# EAGLE library part AD620 (library #PaJa_31)
Pristrojovy zesilovac
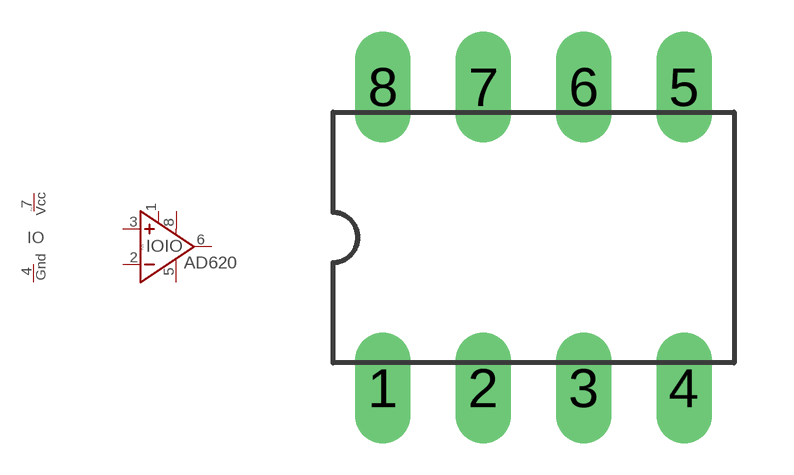
[diagram p33: symbol with the pads of DIL8; footprint DIL8]

Designator prefix IO; gates IO=AD620 N=POWER

## AD620  [DIL8]
1  IO:R1  pas
2  IO:IN-  in
3  IO:NEIN+  in
4  N:GND  pwr
5  IO:OP  pas
6  IO:VYSTUP  out
7  N:VCC  pwr
8  IO:R2  pas

## Footprint DIL8 (pad centres in mm)
drill 0.813 pad 1.4 long: 1 -3.81,-3.81; 2 -1.27,-3.81; 3 1.27,-3.81; 4 3.81,-3.81; 5 3.81,3.81; 6 1.27,3.81; 7 -1.27,3.81; 8 -3.81,3.81